# Altium schematic symbol library WatchDogAlarm_rev1_3.SCHLIB: 22 symbols
Pins are listed as number, name and electrical type; pins without a type are passive.

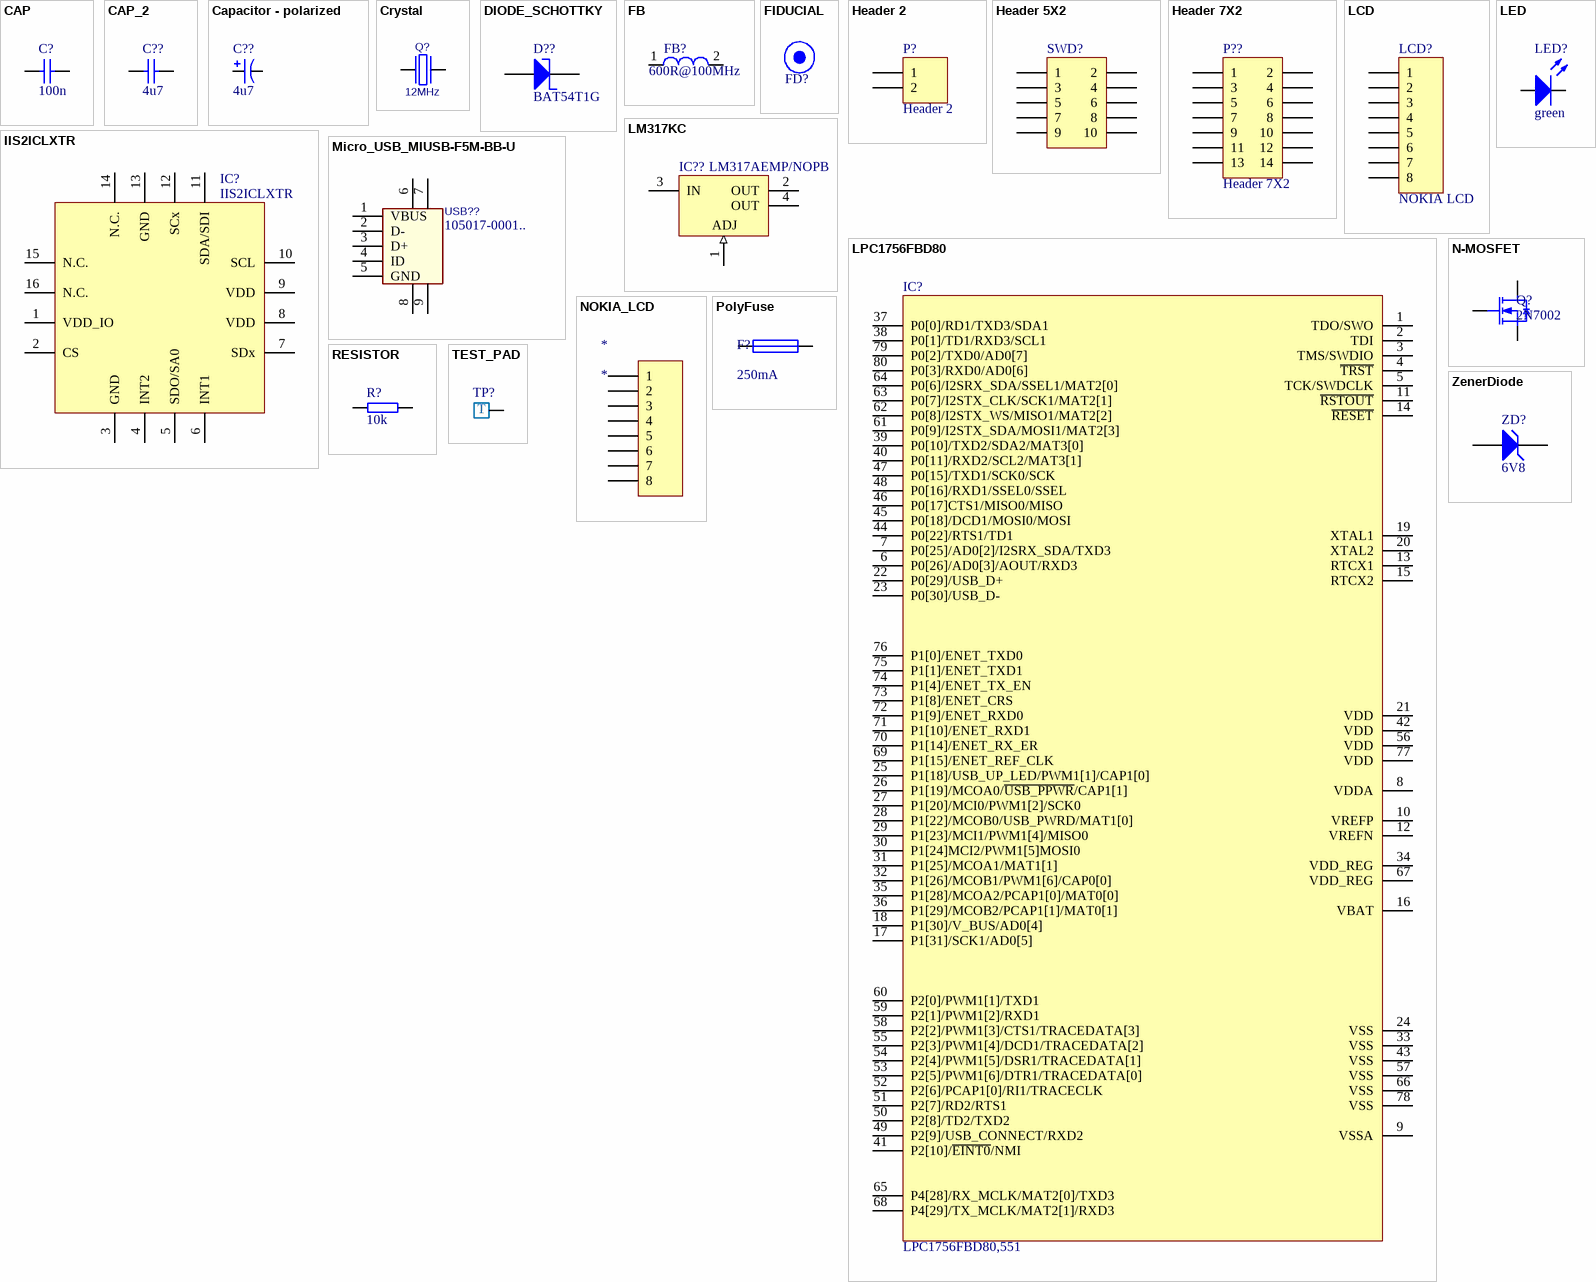
[diagram p0: symbols CAP to ZenerDiode]

## CAP
designator C?, comment 100n
Capacitor; properties: capacitor; farnellCode: *; value: 100n
footprint SMD_C0805 (Chip Capacitor, 2-Leads, Body 2.05x1.25mm, IPC Medium Density)
footprint SMD_C0603
pins: 1, 2

## CAP_2
designator C??, comment 4u7
Capacitor; properties: capacitor; farnellCode: *; value: 4u7
footprint SMD_C0805 (Chip Capacitor, 2-Leads, Body 2.05x1.25mm, IPC Medium Density)
pins: 1, 2

## Capacitor - polarized
designator C??, comment 4u7
Generic polarized capacitor; Value: 4u7
footprint Tantalum 3216
pins: 1, 2

## Crystal
designator Q?, comment 12MHz
Crystal; partnumber: ABM3-12.000MHZ-D2Y-T; manufacturer: ABRACON; properties: Crystal, 12 MHz, SMD, 5mm x 3.2mm, 30 ppm, 18 pF, 20 ppm, ABM3 Series; Value: 12MHz
footprint Crystal_HC49 (Crystall SMD short HC49)
footprint Crystal_THT_small_lying_down
footprint Crystal_THT_short (Crystal short THT)
footprint Crystal_THT_tall (Crystal tall THT)
footprint QABM3
pins: 1, 2

## DIODE_SCHOTTKY
designator D??, comment BAT54T1G
manufacturer: ON SEMICONDUCTOR; properties: Small Signal Schottky Diode, Single, 30 V, 200 mA, 350 mV, 600 mA, 150 °C; value: BAT54T1G; partnumber: BAT54T1G; farnellCode: 1651157
footprint DO-214AA (JEDEC DO214 variation AA. SMB)
footprint SOD-123 (SOD-123; 2 Leads; Body 2.7 x 1.6 mm, (LxW))
pins: 1 K, 2 A

## FB
designator FB?, comment 600R@100MHz
Ferrite bead; value: 600R@100MHz
footprint SMD_R0603
pins: 1, 2

## FIDUCIAL
designator FD?, comment Fiducial 1mm  (value not drawn)  (no BOM)
Category: Fiducials
footprint FID1

## Header 2
designator P?
Header, 2-Pin; LatestRevisionDate: 17-Jul-2002; LatestRevisionNote: Re-released for DXP Platform.; Publisher: Altium Limited
footprint HDR1X2 (Connector; Header; 2 Position)
signal-integrity model Connector
pins: 1, 2

## Header 5X2
designator SWD?, comment Header 5x2  (value not drawn)
Header, 5-Pin, Dual row; Manufacturer: HARWIN; PartNumber: M50-3500542; Properties: Board-To-Board Connector, 1.27 mm, 10 Contacts, Header, Archer M50 Series, Through Hole, 2 Rows; FarnellCode: 1022305; Value: Header 5x2
footprint 2x5_SWD_CON
pins: 1, 2, 3, 4, 5, 6, 7, 8, 9, 10

## Header 7X2
designator P??
Header, 7-Pin, Dual row; LatestRevisionDate: 17-Jul-2002; LatestRevisionNote: Re-released for DXP Platform.; Publisher: Altium Limited
footprint HDR2X7 (Connector; Header; 7x2 Position)
pins: 1, 2, 3, 4, 5, 6, 7, 8, 9, 10, 11, 12, 13, 14

## IIS2ICLXTR
designator IC?
manufacturer: STM; properties: Inclinometers High-accuracy, high-resolution, low-power, 2-axis digital inclinometer with embedded Machine Learning Core; value: IIS2ICLXTR; partnumber: IIS2ICLXTR
footprint LGA-16L
pins: 1 VDD_IO, 2 CS, 3 GND, 4 INT2, 5 SDO/SA0, 6 INT1, 7 SDx, 8 VDD, 9 VDD, 10 SCL, 11 SDA/SDI, 12 SCx, 13 GND, 14 N.C., 15 N.C., 16 N.C.

## LCD
designator LCD?, comment NOKIA LCD
Header, 8-Pin; LatestRevisionDate: 17-Jul-2002; LatestRevisionNote: Re-released for DXP Platform.; Publisher: Altium Limited
footprint NOKIA_LCD (Connector; Header; 8 Position)
pins: 1, 2, 3, 4, 5, 6, 7, 8

## LED
designator LED?, comment green
value: green
footprint LED5MM
footprint SMD_LD1206
footprint SMD_LD0603
pins: 1 K, 2 A

## LM317KC
designator IC??, comment LM317AEMP/NOPB
3-Terminal Adjustable Regulator; manufacturer: TEXAS INSTRUMENTS; properties: Linear Voltage Regulator, Adjustable Positive, 40V primary input, 1.2V to 37V/1A/1 Output, SOT-223-4; value: LM317AEMP/NOPB; partnumber: LM317AEMP/NOPB; farnellCode: 3122676
footprint KC03 (TO, Thru-Hole, Vertical, Heatsink Mounted; 3 In-Line Leads; Pitch 2.54 mm)
footprint SOT-223 (SOT223, 4-Leads, Body 6.5x3.5mm, Pitch 2.3mm, Lead Span 7mm, IPC Medium Density)
pins: 1 ADJ (in), 2 OUT (power), 3 IN (power), 4 OUT (power)

## LPC1756FBD80
designator IC?, comment LPC1756FBD80,551
LPC1756FBD80; manufacturer: NXP; properties: Scalable Mainstream 32-bit Microcontroller (MCU) based on ARM Cortex-M3 Core; partnumber: LPC1756FBD80,551; value: LPC1756FBD80,551; farnellCode: *
footprint LQFP80 (TSQFP, 80-Leads, Body 12,00x12,00mm, Pitch 0,50mm, IPC Medium Density)
pins: 1 TDO/SWO, 2 TDI, 3 TMS/SWDIO, 4 ~{TRST}, 5 TCK/SWDCLK, 6 P0[26]/AD0[3]/AOUT/RXD3, 7 P0[25]/AD0[2]/I2SRX_SDA/TXD3, 8 VDDA, 9 VSSA, 10 VREFP, 11 ~{RSTOUT}, 12 VREFN, 13 RTCX1, 14 ~{RESET}, 15 RTCX2, 16 VBAT, 17 P1[31]/SCK1/AD0[5], 18 P1[30]/V_BUS/AD0[4], 19 XTAL1, 20 XTAL2, 21 VDD, 22 P0[29]/USB_D+, 23 P0[30]/USB_D-, 24 VSS, 25 P1[18]/USB_UP_LED/PWM1[1]/CAP1[0], 26 P1[19]/MCOA0/~{USB_PPWR}/CAP1[1], 27 P1[20]/MCI0/PWM1[2]/SCK0, 28 P1[22]/MCOB0/USB_PWRD/MAT1[0], 29 P1[23]/MCI1/PWM1[4]/MISO0, 30 P1[24]MCI2/PWM1[5]MOSI0, 31 P1[25]/MCOA1/MAT1[1], 32 P1[26]/MCOB1/PWM1[6]/CAP0[0], 33 VSS, 34 VDD_REG, 35 P1[28]/MCOA2/PCAP1[0]/MAT0[0], 36 P1[29]/MCOB2/PCAP1[1]/MAT0[1], 37 P0[0]/RD1/TXD3/SDA1, 38 P0[1]/TD1/RXD3/SCL1, 39 P0[10]/TXD2/SDA2/MAT3[0], 40 P0[11]/RXD2/SCL2/MAT3[1], 41 P2[10]/~{EINT0}/NMI, 42 VDD, 43 VSS, 44 P0[22]/RTS1/TD1, 45 P0[18]/DCD1/MOSI0/MOSI, 46 P0[17]CTS1/MISO0/MISO, 47 P0[15]/TXD1/SCK0/SCK, 48 P0[16]/RXD1/SSEL0/SSEL, 49 P2[9]/USB_CONNECT/RXD2, 50 P2[8]/TD2/TXD2, 51 P2[7]/RD2/RTS1, 52 P2[6]/PCAP1[0]/RI1/TRACECLK, 53 P2[5]/PWM1[6]/DTR1/TRACEDATA[0], 54 P2[4]/PWM1[5]/DSR1/TRACEDATA[1], 55 P2[3]/PWM1[4]/DCD1/TRACEDATA[2], 56 VDD, 57 VSS, 58 P2[2]/PWM1[3]/CTS1/TRACEDATA[3], 59 P2[1]/PWM1[2]/RXD1, 60 P2[0]/PWM1[1]/TXD1, 61 P0[9]/I2STX_SDA/MOSI1/MAT2[3], 62 P0[8]/I2STX_WS/MISO1/MAT2[2], 63 P0[7]/I2STX_CLK/SCK1/MAT2[1], 64 P0[6]/I2SRX_SDA/SSEL1/MAT2[0], 65 P4[28]/RX_MCLK/MAT2[0]/TXD3, 66 VSS, 67 VDD_REG, 68 P4[29]/TX_MCLK/MAT2[1]/RXD3, 69 P1[15]/ENET_REF_CLK, 70 P1[14]/ENET_RX_ER, 71 P1[10]/ENET_RXD1, 72 P1[9]/ENET_RXD0, 73 P1[8]/ENET_CRS, 74 P1[4]/ENET_TX_EN, 75 P1[1]/ENET_TXD1, 76 P1[0]/ENET_TXD0, 77 VDD, 78 VSS, 79 P0[2]/TXD0/AD0[7], 80 P0[3]/RXD0/AD0[6]

## Micro_USB_MIUSB-F5M-BB-U
designator USB??, comment 105017-0001..
manufacturer: MOLEX; properties: USB Connector, Micro USB Type B, USB 2.0, Receptacle, 5 Ways, Surface Mount, Right Angle; value: 105017-0001..; partnumber: 105017-0001..; farnellCode: 2293836
footprint MIUSB-F5M-BB-U
footprint USB_MICRO_B (part num: 105017-0001..)
pins: 1 VBUS (power), 2 D-, 3 D+, 4 ID, 5 GND (power), 6 GND1, 7 GND2, 8 GND2, 9 GND3

## N-MOSFET
designator Q?, comment 2N7002
Power MOSFET, N Channel, 60 V, 300 mA, 2.8 ohm, SOT-23, Surface Mount; Manufacturer: NXP; Dealer number: 1510761; Dealer: Farnell; Max voltage: 60V; Max current: 0.3A; RDS: 2.8Ω; Max power disipation: 830mW; Type: N-enhancment mode; Logic level: Yes; Category: MOSFETs; Price: 0.039; Manufacturer Number: 2N7002; Case: SOT23-3; Technology: SMT; HelpURL: https://www.farnell.com/datasheets/1499179.pdf; SKU: 5000000000001
footprint SOT-23
pins: 1 G, 2 S, 3 D

## NOKIA_LCD
designator *
footprint NOKIA_LCD (Connector; Header; 8 Position)
pins: 1, 2, 3, 4, 5, 6, 7, 8

## PolyFuse
designator F?, comment 250mA
Resettable Fuse, PPTC, 1206 (3216 Metric), POLYFUSE 1206L Series, 16 VDC, 250 mA, 500 mA, 0.08 s; Manufacturer: Littelfuse; Manufacturer Number: 2920L030DR; Dealer number: 1596990; Dealer: Farnell; Trip current: 500mA; Max voltage: 16V; Resistance: 2.3Ω; Category: Fuses; Price: 0.46; Type: Poly fuse; Holing current: 250mA; Technology: SMT; HelpURL: https://www.farnell.com/datasheets/683946.pdf
footprint PPTCF 1206 (PPTC fuse 2-Leads, Body 3.15x1.60mm, IPC Medium Density)
pins: 1, 2

## RESISTOR
designator R?, comment 10k
properties: resistor; value: 10k; farnellCode: *
footprint SMD_R0603
pins: 1, 2

## TEST_PAD
designator TP?, comment TEST_PAD_1.5mm  (value not drawn)
value: TEST_PAD_1.5mm
footprint TEST_PAD_1.5mm
footprint TEST_PAD_1mm
pins: 1
text: T

## ZenerDiode
designator ZD?, comment 6V8
Zener Diode; Manufacturer: ON Semiconductor; PartNumber: BZX84C6V8LT1G; Properties: Zener Single Diode, 6.8 V, 225 mW, SOT-23, 6 %, 3 Pins, 150 °C; FarnellCode: 1651587; Value: 6V8
footprint SOT-23
pins: 1 A, 3 K